# Altium schematic symbol library Zener_Diodes.SchLib: 5 symbols
Pins are listed as number, name and electrical type; pins without a type are passive.

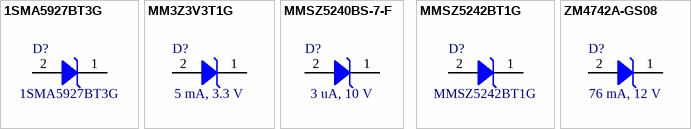
[diagram p0: symbols 1SMA5927BT3G to ZM4742A-GS08]

## 1SMA5927BT3G
designator D?
Zener Diodes 12V 1.5W; Manufacturer: onsemi; Zener Current: 125 mA; Power Dissipation: 500 mW; Reverse Current: 500 nA; Voltage Tolerance: 5 %; Zener Impedance: 30 Ohms; Type: Zener; Supplier 1 URL: https://www.mouser.vn/ProductDetail/onsemi/1SMA5927BT3G?qs=y2kkmE52mdMhTuIaEBFoKA%3D%3D; Supplier 2 URL: N/A; Supplier 3 URL: N/A; Value: 1SMA5927BT3G; Maximum Reverse Leakage Current: 500 nA; Zener Voltage: 12 V; Manufacturer Part Number: 1SMA5927BT3G; Supplier 1: Mouser; Supplier 1 Part Number: 863-1SMA5927BT3G; Supplier 2: Digi-Key; Supplier 2 Part Number: N/A; Supplier 3: thegioiic; Supplier 3 Part Number: N/A; Mount: SMD/SMT; Operating Temperature Max: + 150 C; Operating Temperature Min: - 55 C; Package / Case: SMA; Packaging: Tape and Reel; ComponentLink1Description: Datasheet; ComponentLink1URL: https://www.onsemi.com/PowerSolutions/product.do?id=1SMA5927BT3G; LCSC Part #: C33754
footprint SMA (DO-214AC) (Molded Diode, 2-Leads, Body 4.25x2.67mm, IPC Medium Density)
pins: 1 K, 2 A

## MM3Z3V3T1G
designator D?, comment 5 mA, 3.3 V
Zener Diodes 3.3V 300mW; Manufacturer: onsemi; Manufacturer Part Number: MM3Z3V3T1G; Zener Current: 5 uA; Reverse Current: 5 mA; Voltage Tolerance: 5 %; Zener Impedance: 95 Ohms; Type: Zener; Supplier 1 URL: https://www.mouser.com/ProductDetail/onsemi/MM3Z3V3T1G?qs=HVbQlW5zcXVv6KQ4meaZ3g%3D%3D; Supplier 2 URL: N/A; Supplier 3 URL: N/A; Value: 5 mA, 3.3 V; Power Dissipation: 300 mW; Maximum Reverse Leakage Current: 5 uA; Zener Voltage: 3.3 V; Supplier 1: Mouser; Supplier 1 Part Number: 863-MM3Z3V3T1G; Supplier 2: Digi-Key; Supplier 2 Part Number: N/A; Supplier 3: thegioiic; Supplier 3 Part Number: N/A; Mount: SMD/SMT; Operating Temperature Max: + 150 C; Operating Temperature Min: - 65 C; Package / Case: SOD-323; Packaging: Tape and Reel; ComponentLink1Description: Datasheet; ComponentLink1URL: https://www.vishay.com/doc?85786; LCSC Part #: C75073
footprint SOD-323 (SOIC, 2-Leads, Body 1.25x1.70mm, Pitch 1.27mm, IPC Medium Density)
pins: 1 K, 2 A

## MMSZ5240BS-7-F
designator D?, comment 3 uA, 10 V
Independent 9.5V~10.5V 200mW 10V SOD-323 Zener Diodes ROHS; Manufacturer: Diodes Incorporated; Manufacturer Part Number: MMSZ5240BS-7-F; Zener Current: 3 uA; Voltage Tolerance: 5 %; Zener Impedance: 17 Ohms; Type: Zener; Supplier 1 URL: https://www.mouser.vn/ProductDetail/Diodes-Incorporated/MMSZ5240BS-7-F?qs=X900LpqWd1Gp1t6j3UaMUg%3D%3D; Supplier 2 URL: N/A; Supplier 3 URL: N/A; Value: 3 uA, 10 V; Power Dissipation: 200 mW; Reverse Current: 3 uA; Maximum Reverse Leakage Current: 3 uA; Zener Voltage: 10 V; Supplier 1: Mouser; Supplier 1 Part Number: 621-MMSZ5240BS-F; Supplier 2: Digi-Key; Supplier 2 Part Number: N/A; Supplier 3: thegioiic; Supplier 3 Part Number: N/A; Mount: SMD/SMT; Operating Temperature Max: + 150 C; Operating Temperature Min: - 65 C; Package / Case: SOD-323-2; Packaging: Tape and Reel; ComponentLink1Description: Datasheet; ComponentLink1URL: https://www.vishay.com/doc?85786; LCSC Part #: C67528
footprint SOD-323 (SOIC, 2-Leads, Body 1.25x1.70mm, Pitch 1.27mm, IPC Medium Density)
pins: 1 K, 2 A

## MMSZ5242BT1G
designator D?
Zener Diodes 12V 500mW; Manufacturer: onsemi; Zener Current: 1 uA; Voltage Tolerance: 5 %; Zener Impedance: 30 Ohms; Type: Zener; Supplier 1 URL: https://www.mouser.vn/ProductDetail/onsemi/MMSZ5242BT1G?qs=P4IOph%252Bbot86vh9xsqpsdw%3D%3D; Supplier 2 URL: N/A; Supplier 3 URL: N/A; Value: MMSZ5242BT1G; Power Dissipation: 500 mW; Reverse Current: 1 uA; Maximum Reverse Leakage Current: 1 uA; Zener Voltage: 12 V; Manufacturer Part Number: MMSZ5242BT1G; Supplier 1: Mouser; Supplier 1 Part Number: 863-MMSZ5242BT1G; Supplier 2: Digi-Key; Supplier 2 Part Number: N/A; Supplier 3: thegioiic; Supplier 3 Part Number: N/A; Mount: SMD/SMT; Operating Temperature Max: + 150 C; Operating Temperature Min: - 55 C; Package / Case: SOD-123-2; Packaging: Tape and Reel; ComponentLink1Description: Datasheet; ComponentLink1URL: https://www.onsemi.com/PowerSolutions/product.do?id=MMSZ5242BT1G; LCSC Part #: C82050
footprint SOD-123 (SOIC, 2-Leads, Body 1.55x2.70mm, Pitch 1.27mm, IPC Medium Density)
pins: 1 K, 2 A

## ZM4742A-GS08
designator D?, comment 76 mA, 12 V
Zener Diodes 12 Volt 1 Watt 5%; Manufacturer: Vishay Semiconductors; Manufacturer Part Number: ZM4742A-GS08; Zener Current: 76 mA; Power Dissipation: 1 W; Reverse Current: 5 uA; Zener Impedance: 9 Ohms; Zener Voltage: 12 V; Type: Zener; Supplier 1 URL: https://www.mouser.vn/ProductDetail/Vishay-Semiconductors/ZM4742A-GS08?qs=8Acm1RElxHK1TOeooqKC1w%3D%3D; Supplier 2 URL: https://www.digikey.com/en/products/detail/vishay-general-semiconductor-diodes-division/zm4742a-gs08/3104287; Supplier 3 URL: https://www.thegioiic.com/zm4742a-gs08-diode-zener-12v-1w-smd; Value: 76 mA, 12 V; Maximum Reverse Leakage Current: 5 uA; Voltage Tolerance: 5 %; Supplier 1: Mouser; Supplier 1 Part Number: 625-ZM4742A; Supplier 2: Digi-Key; Supplier 2 Part Number: ZM4742A-GS08TR-ND; Supplier 3: thegioiic; Supplier 3 Part Number: ZM4742A-GS08; Mount: SMD/SMT; Operating Temperature Max: + 85 C; Operating Temperature Min: - 40 C; Package / Case: DO-213AB-2; Packaging: Tape and Reel; ComponentLink1Description: Datasheet; ComponentLink1URL: https://www.vishay.com/doc?85786; LCSC Part #: C74494
footprint DO-213AB-2 (MELF Diode, 2-Leads, Body 5.00x2.50mm, IPC Medium Density)
pins: 1 K, 2 A